# EAGLE library part PINHD-3X7 (library 25pinhead)
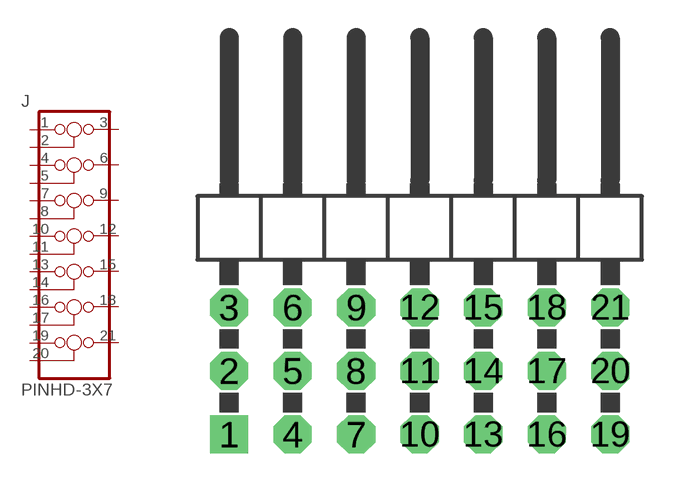
[diagram p44: symbol with the pads of 3X07/90; footprint 3X07/90]

Designator prefix J

## PINHD-3X7/90  [3X07/90]
1  1  pas
2  2  pas
3  3  pas
4  4  pas
5  5  pas
6  6  pas
7  7  pas
8  8  pas
9  9  pas
10  10  pas
11  11  pas
12  12  pas
13  13  pas
14  14  pas
15  15  pas
16  16  pas
17  17  pas
18  18  pas
19  19  pas
20  20  pas
21  21  pas

## Footprint 3X07/90 (pad centres in mm)
drill 1.016 square: 1 -7.62,-8.89
drill 1.016 octagon: 2 -7.62,-6.35; 3 -7.62,-3.81; 4 -5.08,-8.89; 5 -5.08,-6.35; 6 -5.08,-3.81; 7 -2.54,-8.89; 8 -2.54,-6.35; 9 -2.54,-3.81; 10 0,-8.89; 11 0,-6.35; 12 0,-3.81; 13 2.54,-8.89; 14 2.54,-6.35; 15 2.54,-3.81; 16 5.08,-8.89; 17 5.08,-6.35; 18 5.08,-3.81; 19 7.62,-8.89; 20 7.62,-6.35; 21 7.62,-3.81